# Altium footprint library MB85RC256VPF-G-JNERE2.PCBLIB: 1 footprints
Each footprint in its own frame and in the unit in brackets; x right, y up, seen from the top. Pads: shape width x height; smd on the part's side, far side on the other; paste and mask are expansions set on the pad; w line width, h text height; cw(c..) or ccw(c..) is an arc to the next point about the centre after c.
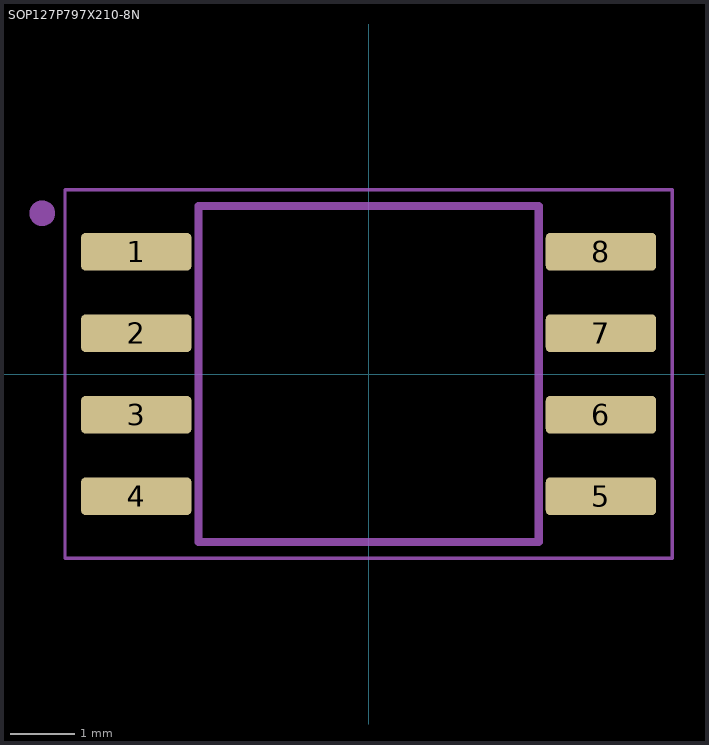
[diagram p0: the footprint, top view; thin cyan lines are the x and y axes]

## SOP127P797X210-8N [mm]
pads (8):
  rrect25% 1.72x0.59 smd: 1(-3.62,1.905) 2(-3.62,0.635) 3(-3.62,-0.635) 4(-3.62,-1.905) 5(3.62,-1.905) 6(3.62,-0.635) 7(3.62,0.635) 8(3.62,1.905)
Assembly Top:
  circle w0.2: c-5.085,2.505 r0.1
  lines w0.127: -2.65,-2.62 2.65,-2.62 2.65,2.62 -2.65,2.62 -2.65,-2.62
Mechanical 22:
  circle w0.2: c-5.085,2.505 r0.1
  lines w0.127: -2.65,-2.62 2.65,-2.62 ; -2.65,2.62 2.65,2.62
Mechanical 30:
  lines w0.05: -4.73,-2.87 4.73,-2.87 4.73,2.87 -4.73,2.87 -4.73,-2.87